# Altium schematic symbol library QUTMS_PCBLibrary.SchLib: 30 symbols
Pins are listed as number, name and electrical type; pins without a type are passive.

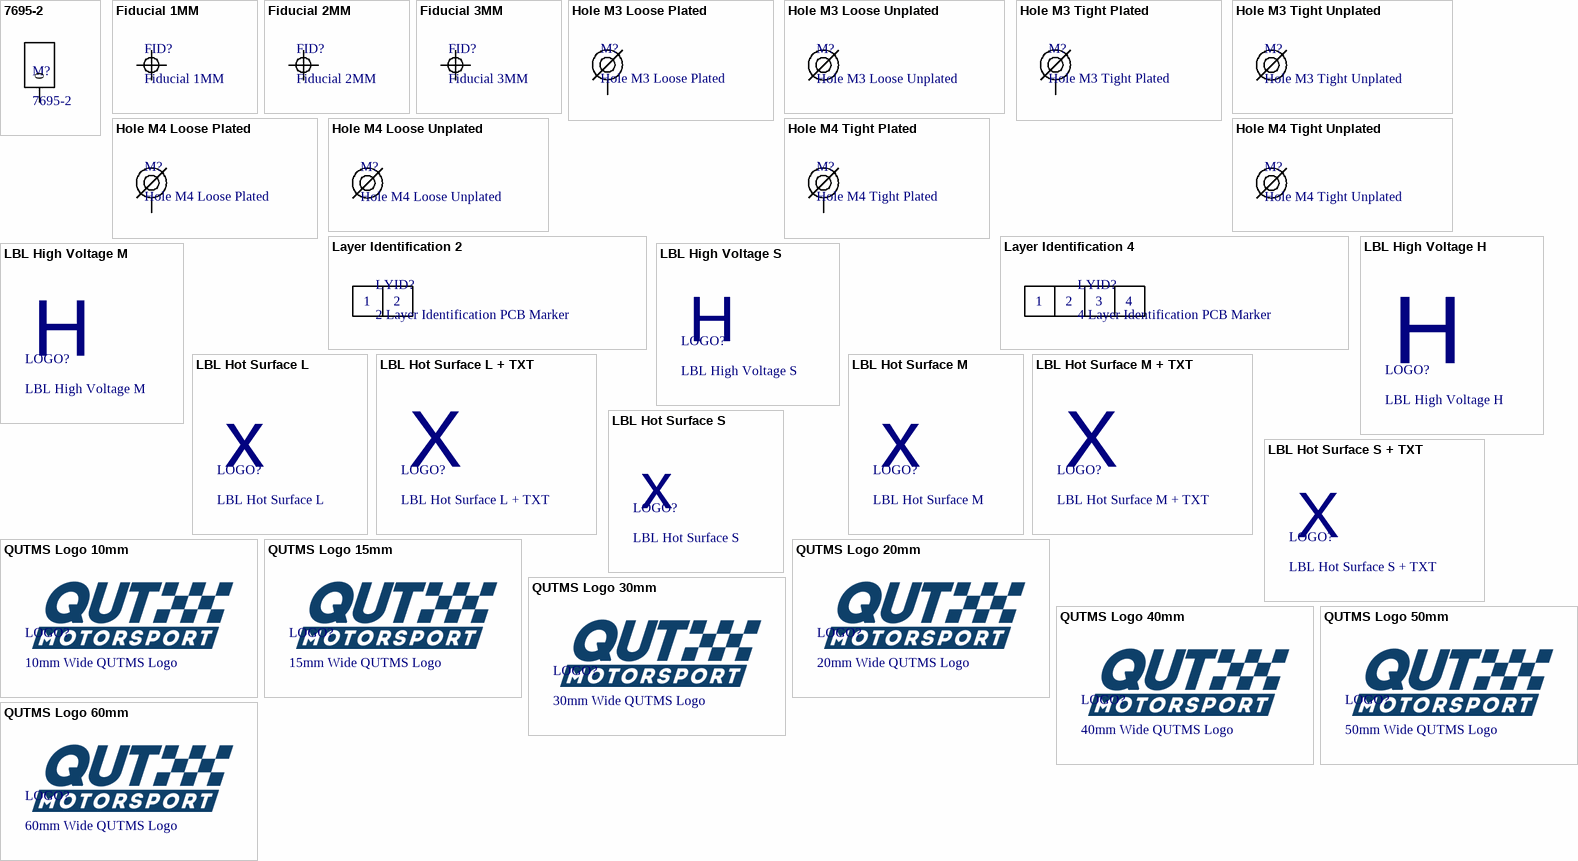
[diagram p0: symbols 7695-2 to QUTMS Logo 60mm]

## 7695-2
designator M?
SNAP-INPC MOUNT
footprint Keystone 7790 (4 Pin Screw Terminal, Power Tap M3 Through Hole, Right Angle)
pins: 0

## Fiducial 1MM
designator FID?
footprint FIDUCIAL 1MM

## Fiducial 2MM
designator FID?
footprint FIDUCIAL 2MM

## Fiducial 3MM
designator FID?
footprint FIDUCIAL 3MM

## Hole M3 Loose Plated
designator M?
M3.5 Hole, Plated
footprint M3.5 PLATED
pins: 1

## Hole M3 Loose Unplated
designator M?
M3.5 Hole, No Plating
footprint M3.5 UNPLATED

## Hole M3 Tight Plated
designator M?
M3.2 Hole, Plated
footprint M3.2 PLATED
pins: 1

## Hole M3 Tight Unplated
designator M?
M3.2 Hole, No Plating
footprint M3.2 UNPLATED

## Hole M4 Loose Plated
designator M?
M4.5 Hole, Plated
footprint M4.5 PLATED
pins: 1

## Hole M4 Loose Unplated
designator M?
M4.5 Hole, No Plating
footprint M4.5 UNPLATED

## Hole M4 Tight Plated
designator M?
M4.2 Hole, Plated
footprint M4.2 PLATED
pins: 1

## Hole M4 Tight Unplated
designator M?
M4.2 Hole, No Plating
footprint M4.2 UNPLATED

## Layer Identification 2
designator LYID?, comment 2 Layer Identification PCB Marker
footprint LAYER IDENT 2
text: 1; 2

## Layer Identification 4
designator LYID?, comment 4 Layer Identification PCB Marker
footprint LAYER IDENT 4
text: 1; 2; 3; 4

## LBL High Voltage H
designator LOGO?
footprint LBL HV LARGE
text: H

## LBL High Voltage M
designator LOGO?
footprint LBL HV MEDIUM
text: H

## LBL High Voltage S
designator LOGO?
footprint LBL HV SMALL
text: H

## LBL Hot Surface L
designator LOGO?
footprint LBL HOT LARGE
text: x

## LBL Hot Surface L + TXT
designator LOGO?
footprint LBL HOT LARGE TXT
text: X

## LBL Hot Surface M
designator LOGO?
footprint LBL HOT MEDIUM
text: x

## LBL Hot Surface M + TXT
designator LOGO?
footprint LBL HOT MEDIUM TXT
text: X

## LBL Hot Surface S
designator LOGO?
footprint LBL HOT SMALL
text: x

## LBL Hot Surface S + TXT
designator LOGO?
footprint LBL HOT SMALL TXT
text: X

## QUTMS Logo 10mm
designator LOGO?, comment 10mm Wide QUTMS Logo
footprint QUTMS LOGO 10MM

## QUTMS Logo 15mm
designator LOGO?, comment 15mm Wide QUTMS Logo
footprint QUTMS LOGO 15MM

## QUTMS Logo 20mm
designator LOGO?, comment 20mm Wide QUTMS Logo
footprint QUTMS LOGO 20MM

## QUTMS Logo 30mm
designator LOGO?, comment 30mm Wide QUTMS Logo
footprint QUTMS LOGO 30MM

## QUTMS Logo 40mm
designator LOGO?, comment 40mm Wide QUTMS Logo
footprint QUTMS LOGO 40MM

## QUTMS Logo 50mm
designator LOGO?, comment 50mm Wide QUTMS Logo
footprint QUTMS LOGO 50MM

## QUTMS Logo 60mm
designator LOGO?, comment 60mm Wide QUTMS Logo
footprint QUTMS LOGO 60MM